# Altium footprint library Linear Technology Power Management LDO Linear Regulators.PcbLib: 77 footprints (part 1 of 5)
Each footprint in its own frame and in the unit in brackets; x right, y up, seen from the top. Pads: shape width x height; smd on the part's side, far side on the other; paste and mask are expansions set on the pad; w line width, h text height; cw(c..) or ccw(c..) is an arc to the next point about the centre after c.
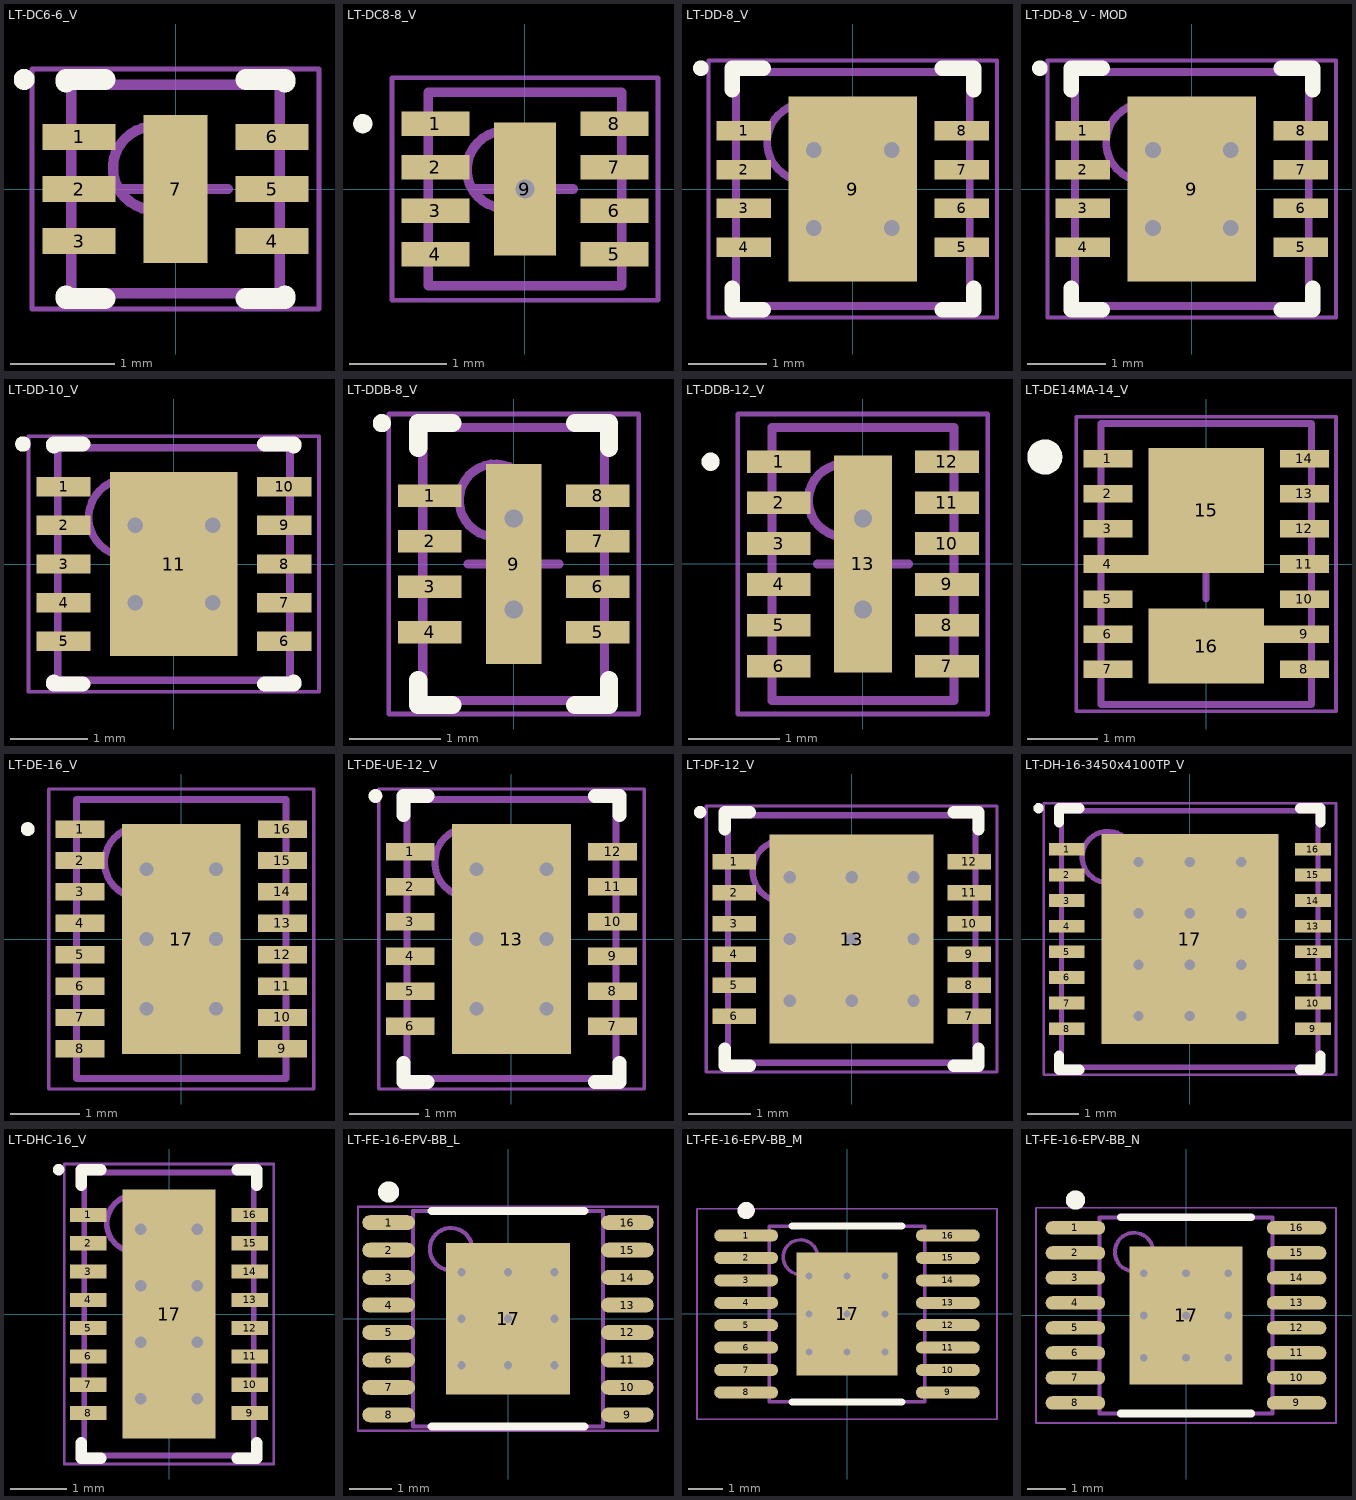
[diagram p0: the footprints below, top view; thin cyan lines are the x and y axes]

## LT-DC6-6_V [mm] "SON, 6-Leads, Body 2x2mm, Pitch 0.5mm, Thermal Pad 1.42x0.61mm"
height 0.8
pads (7):
  rect 0.7x0.25 smd mask+0.102: 1(-0.925,0.5) 2(-0.925,0) 4(0.925,-0.5) 5(0.925,0)
  rect 0.7x0.25 smd paste+0 mask+0.102: 3(-0.925,-0.5)
  rect 0.7x0.25 smd: 6(0.925,0.5)
  rect 0.61x1.42 smd: 7(0,0)
Top Overlay:
  circle w0.1: c-1.45,1.05 r0.05
  lines w0.2: -1.05,-1.025 -1.05,-1.05 -0.675,-1.05 ; -1.05,1.025 -1.05,1.05 -0.675,1.05 ; 0.675,-1.05 1.05,-1.05 1.05,-1.025 ; 0.675,1.05 1.05,1.05 1.05,1.025
Mechanical 13:
  circle w0.1: c-0.2,0.2 r0.4
  lines w0.1: -1,-1 -1,1 1,1 1,-1 -1,-1
Mechanical 15:
  lines w0.05: -1.375,-1.15 -1.375,1.15 1.375,1.15 1.375,-1.15 -1.375,-1.15
  lines w0.1: -0.5,0 0.5,0 ; 0,-0.5 0,0.5
3D body: height 0.8, standoff 0, extent -1,-1 1,1

## LT-DC8-8_V [mm] "SON, 8-Leads, Body 2x2mm, Pitch 0.45mm, Thermal Pad 1.37x0.64mm"
height 0.8
pads (9):
  rect 0.7x0.25 smd paste+0 mask+0.102: 1(-0.925,0.675)
  rect 0.7x0.25 smd mask+0.102: 2(-0.925,0.225) 3(-0.925,-0.225) 4(-0.925,-0.675) 5(0.925,-0.675) 6(0.925,-0.225) 7(0.925,0.225) 8(0.925,0.675)
  rect 0.64x1.37 smd mask+0.102: 9(0,0)
via 0,0 diameter 0.5 hole 0.2
Top Overlay:
  circle w0.1: c-1.675,0.675 r0.05
Mechanical 13:
  circle w0.1: c-0.2,0.2 r0.4
  lines w0.1: -1,-1 1,-1 1,1 -1,1 -1,-1
Mechanical 15:
  lines w0.05: -1.375,-1.15 1.375,-1.15 1.375,1.15 -1.375,1.15 -1.375,-1.15
  lines w0.1: -0.5,0 0.5,0 ; 0,-0.5 0,0.5
3D body: height 0.8, standoff 0, extent -1,-1 1,1

## LT-DD-8_V [mm] "SON, 8-Leads, Body 3x3mm, Pitch 0.5mm, Thermal Pad 1.65x2.38 mm, IPC Low Density"
height 0.8
pads (9):
  rect 0.7x0.25 smd mask+0.102: 1(-1.4,0.75) 2(-1.4,0.25) 3(-1.4,-0.25) 4(-1.4,-0.75) 5(1.4,-0.75) 6(1.4,-0.25) 7(1.4,0.25) 8(1.4,0.75)
  rect 1.65x2.38 smd mask+0.102: 9(0,0)
via 0.5,-0.5 diameter 0.5 hole 0.2
via -0.5,-0.5 diameter 0.5 hole 0.2
via 0.5,0.5 diameter 0.5 hole 0.2
via -0.5,0.5 diameter 0.5 hole 0.2
Top Overlay:
  circle w0.1: c-1.95,1.55 r0.05
  lines w0.2: -1.55,-1.275 -1.55,-1.55 -1.15,-1.55 ; -1.55,1.275 -1.55,1.55 -1.15,1.55 ; 1.15,-1.55 1.55,-1.55 1.55,-1.275 ; 1.15,1.55 1.55,1.55 1.55,1.275
Mechanical 13:
  circle w0.1: c-0.6,0.6 r0.5
  lines w0.1: -1.5,-1.5 1.5,-1.5 1.5,1.5 -1.5,1.5 -1.5,-1.5
Mechanical 15:
  lines w0.05: -1.85,-1.65 1.85,-1.65 1.85,1.65 -1.85,1.65 -1.85,-1.65
  lines w0.1: -0.5,0 0.5,0 ; 0,-0.5 0,0.5
3D body: height 0.8, standoff 0, extent -1.5,-1.5 1.5,1.5

## LT-DD-8_V - MOD [mm] "SON, 8-Leads, Body 3x3mm, Pitch 0.5mm, Thermal Pad 1.65x2.38 mm, IPC Low Density"
height 0.8
pads (9):
  rect 0.7x0.25 smd mask+0.102: 1(-1.4,0.75) 2(-1.4,0.25) 3(-1.4,-0.25) 4(-1.4,-0.75) 5(1.4,-0.75) 6(1.4,-0.25) 7(1.4,0.25) 8(1.4,0.75)
  rect 1.65x2.38 smd mask+0.102: 9(0,0)
via 0.5,-0.5 diameter 0.5 hole 0.203
via -0.5,-0.5 diameter 0.5 hole 0.203
via 0.5,0.5 diameter 0.5 hole 0.203
via -0.5,0.5 diameter 0.5 hole 0.203
Top Overlay:
  circle w0.1: c-1.95,1.55 r0.05
  lines w0.2: -1.55,-1.275 -1.55,-1.55 -1.15,-1.55 ; -1.55,1.275 -1.55,1.55 -1.15,1.55 ; 1.15,-1.55 1.55,-1.55 1.55,-1.275 ; 1.15,1.55 1.55,1.55 1.55,1.275
Mechanical 13:
  circle w0.1: c-0.6,0.6 r0.5
  lines w0.1: -1.5,-1.5 1.5,-1.5 1.5,1.5 -1.5,1.5 -1.5,-1.5
Mechanical 15:
  lines w0.05: -1.85,-1.65 1.85,-1.65 1.85,1.65 -1.85,1.65 -1.85,-1.65
  lines w0.1: -0.5,0 0.5,0 ; 0,-0.5 0,0.5
3D body: height 0.8, standoff 0, extent -1.476,-1.524 1.524,1.476

## LT-DD-10_V [mm] "SON, 10-Leads, Body 3x3mm, Pitch 0.5mm, Thermal Pad 2.38x1.65mm"
height 0.8
pads (11):
  rect 0.7x0.25 smd mask+0.102: 1(-1.425,1) 2(-1.425,0.5) 3(-1.425,0) 4(-1.425,-0.5) 5(-1.425,-1) 6(1.425,-1) 7(1.425,-0.5) 8(1.425,0) 9(1.425,0.5) 10(1.425,1)
  rect 1.65x2.38 smd mask+0.102: 11(0,0)
via -0.5,0.5 diameter 0.5 hole 0.2
via 0.5,0.5 diameter 0.5 hole 0.2
via -0.5,-0.5 diameter 0.5 hole 0.2
via 0.5,-0.5 diameter 0.5 hole 0.2
Top Overlay:
  circle w0.1: c-1.95,1.55 r0.05
  lines w0.2: -1.55,-1.525 -1.55,-1.55 -1.175,-1.55 ; -1.55,1.525 -1.55,1.55 -1.175,1.55 ; 1.175,-1.55 1.55,-1.55 1.55,-1.525 ; 1.175,1.55 1.55,1.55 1.55,1.525
Mechanical 13:
  circle w0.1: c-0.6,0.6 r0.5
  lines w0.1: -1.5,-1.5 -1.5,1.5 1.5,1.5 1.5,-1.5 -1.5,-1.5
Mechanical 15:
  lines w0.05: -1.875,-1.65 -1.875,1.65 1.875,1.65 1.875,-1.65 -1.875,-1.65
  lines w0.1: -0.5,0 0.5,0 ; 0,-0.5 0,0.5
3D body: height 0.8, standoff 0, extent -1.5,-1.5 1.5,1.5

## LT-DDB-8_V [mm] "SON, 8-Leads, Body 3x2mm, Pitch 0.5mm, Thermal Pad 2.2x0.61mm"
height 0.8
pads (9):
  rect 0.7x0.25 smd mask+0.102: 1(-0.925,0.75) 2(-0.925,0.25) 3(-0.925,-0.25) 4(-0.925,-0.75) 5(0.925,-0.75) 6(0.925,-0.25) 7(0.925,0.25) 8(0.925,0.75)
  rect 0.61x2.2 smd mask+0.102: 9(0,0)
via 0,-0.5 diameter 0.5 hole 0.2
via 0,0.5 diameter 0.5 hole 0.2
Top Overlay:
  circle w0.1: c-1.45,1.55 r0.05
  lines w0.2: -1.05,-1.275 -1.05,-1.55 -0.675,-1.55 ; -1.05,1.275 -1.05,1.55 -0.675,1.55 ; 0.675,-1.55 1.05,-1.55 1.05,-1.275 ; 0.675,1.55 1.05,1.55 1.05,1.275
Mechanical 13:
  circle w0.1: c-0.2,0.7 r0.4
  lines w0.1: -1,-1.5 1,-1.5 1,1.5 -1,1.5 -1,-1.5
Mechanical 15:
  lines w0.05: -1.375,-1.65 1.375,-1.65 1.375,1.65 -1.375,1.65 -1.375,-1.65
  lines w0.1: -0.5,0 0.5,0 ; 0,-0.5 0,0.5
3D body: height 0.8, standoff 0, extent -1,-1.5 1,1.5

## LT-DDB-12_V [mm] "SON, 12-Leads, Body 3x2mm, Pitch 0.45mm, Thermal Pad 2.39x0.64mm"
height 0.8
pads (13):
  rect 0.7x0.25 smd mask+0.102: 1(-0.925,1.125) 2(-0.925,0.675) 3(-0.925,0.225) 4(-0.925,-0.225) 5(-0.925,-0.675) 6(-0.925,-1.125) 7(0.925,-1.125) 8(0.925,-0.675) 9(0.925,-0.225) 10(0.925,0.225) 11(0.925,0.675) 12(0.925,1.125)
  rect 0.64x2.39 smd mask+0.102: 13(0,0)
via 0,0.5 diameter 0.5 hole 0.2
via 0,-0.5 diameter 0.5 hole 0.2
Top Overlay:
  circle w0.1: c-1.675,1.125 r0.05
Mechanical 13:
  circle w0.1: c-0.2,0.7 r0.4
  lines w0.1: -1,-1.5 -1,1.5 1,1.5 1,-1.5 -1,-1.5
Mechanical 15:
  lines w0.05: -1.375,-1.65 -1.375,1.65 1.375,1.65 1.375,-1.65 -1.375,-1.65
  lines w0.1: -0.5,0 0.5,0 ; 0,-0.5 0,0.5
3D body: height 0.8, standoff 0, extent -1,-1.5 1,1.5

## LT-DE14MA-14_V [mm] "DE14MA, 14-Leads, Body 4x3mm, Pitch 0.5mm"
height 0.75
pads (18):
  rect 0.7x0.25 smd: 1(-1.4,1.5) 2(-1.4,1) 3(-1.4,0.5) 4(-1.4,0) 5(-1.4,-0.5) 6(-1.4,-1) 7(-1.4,-1.5) 8(1.4,-1.5) 9(1.4,-1) 10(1.4,-0.5) 11(1.4,0) 12(1.4,0.5) 13(1.4,1) 14(1.4,1.5)
  rect 1.65x1.78 smd: 15(0,0.765)
  rect 1.65x1.07 smd: 16(0,-1.17)
  rect 0.3x0.25 smd: ""(-0.97,0)
  rect 0.5x0.25 smd: ""(0.9,-1)
Top Overlay:
  circle w0.25: c-2.3,1.525 r0.125
Mechanical 13:
  lines w0.1: -1.5,-2 -1.5,2 1.5,2 1.5,-2 -1.5,-2
Mechanical 15:
  lines w0.05: -1.85,-2.1 1.85,-2.1 1.85,2.1 -1.85,2.1 -1.85,-2.1
  lines w0.1: -0.5,0 0.5,0 ; 0,-0.5 0,0.5
3D body: height 0.75, standoff 0, extent -1.5,-2 1.5,2

## LT-DE-16_V [mm] "SON, 16-Leads, Body 4x3mm, Pitch 0.45mm, Thermal Pad 3.3x1.7mm"
height 0.8
pads (17):
  rect 0.7x0.25 smd mask+0.102: 1(-1.45,1.575) 2(-1.45,1.125) 3(-1.45,0.675) 4(-1.45,0.225) 5(-1.45,-0.225) 6(-1.45,-0.675) 7(-1.45,-1.125) 8(-1.45,-1.575) 9(1.45,-1.575) 10(1.45,-1.125) 11(1.45,-0.675) 12(1.45,-0.225) 13(1.45,0.225) 14(1.45,0.675) 15(1.45,1.125) 16(1.45,1.575)
  rect 1.7x3.3 smd mask+0.102: 17(0,0)
via -0.5,1 diameter 0.5 hole 0.2
via 0.5,1 diameter 0.5 hole 0.2
via -0.5,0 diameter 0.5 hole 0.2
via 0.5,0 diameter 0.5 hole 0.2
via -0.5,-1 diameter 0.5 hole 0.2
via 0.5,-1 diameter 0.5 hole 0.2
Top Overlay:
  circle w0.1: c-2.2,1.575 r0.05
Mechanical 13:
  circle w0.1: c-0.6,1.1 r0.5
  lines w0.1: -1.5,-2 -1.5,2 1.5,2 1.5,-2 -1.5,-2
Mechanical 15:
  lines w0.05: -1.9,-2.15 -1.9,2.15 1.9,2.15 1.9,-2.15 -1.9,-2.15
  lines w0.1: -0.5,0 0.5,0 ; 0,-0.5 0,0.5
3D body: height 0.8, standoff 0, extent -1.5,-2 1.5,2

## LT-DE-UE-12_V [mm] "SON, 12-Leads, Body 4x3mm, Pitch 0.5mm, Thermal Pad 3.3x1.7mm"
height 0.8
pads (13):
  rect 0.7x0.25 smd: 1(-1.45,1.25) 2(-1.45,0.75) 3(-1.45,0.25) 4(-1.45,-0.25) 5(-1.45,-0.75) 6(-1.45,-1.25) 7(1.45,-1.25) 8(1.45,-0.75) 9(1.45,-0.25) 10(1.45,0.25) 11(1.45,0.75) 12(1.45,1.25)
  rect 1.7x3.3 smd: 13(0,0)
via 0.5,-1 diameter 0.5 hole 0.2
via -0.5,-1 diameter 0.5 hole 0.2
via 0.5,0 diameter 0.5 hole 0.2
via -0.5,0 diameter 0.5 hole 0.2
via 0.5,1 diameter 0.5 hole 0.2
via -0.5,1 diameter 0.5 hole 0.2
Top Overlay:
  circle w0.1: c-1.95,2.05 r0.05
  lines w0.2: -1.55,-1.775 -1.55,-2.05 -1.2,-2.05 ; -1.55,1.775 -1.55,2.05 -1.2,2.05 ; 1.2,-2.05 1.55,-2.05 1.55,-1.775 ; 1.2,2.05 1.55,2.05 1.55,1.775
Mechanical 13:
  circle w0.1: c-0.6,1.1 r0.5
  lines w0.1: -1.5,-2 1.5,-2 1.5,2 -1.5,2 -1.5,-2
Mechanical 15:
  lines w0.05: -1.9,-2.15 1.9,-2.15 1.9,2.15 -1.9,2.15 -1.9,-2.15
  lines w0.1: -0.5,0 0.5,0 ; 0,-0.5 0,0.5
3D body: height 0.8, standoff 0, extent -1.5,-2 1.5,2

## LT-DF-12_V [mm] "SON, 12-Leads, Body 4x4mm, Pitch 0.5mm, Thermal Pad 2.65x3.38mm"
height 0.8
pads (13):
  rect 0.7x0.25 smd: 1(-1.9,1.25) 2(-1.9,0.75) 3(-1.9,0.25) 4(-1.9,-0.25) 5(-1.9,-0.75) 6(-1.9,-1.25) 7(1.9,-1.25) 8(1.9,-0.75) 9(1.9,-0.25) 10(1.9,0.25) 11(1.9,0.75) 12(1.9,1.25)
  rect 2.65x3.38 smd: 13(0,0)
via 1,-1 diameter 0.5 hole 0.2
via 0,-1 diameter 0.5 hole 0.2
via -1,-1 diameter 0.5 hole 0.2
via 1,0 diameter 0.5 hole 0.2
via 0,0 diameter 0.5 hole 0.2
via -1,0 diameter 0.5 hole 0.2
via 1,1 diameter 0.5 hole 0.2
via 0,1 diameter 0.5 hole 0.2
via -1,1 diameter 0.5 hole 0.2
Top Overlay:
  circle w0.1: c-2.45,2.05 r0.05
  lines w0.2: -2.05,-1.775 -2.05,-2.05 -1.65,-2.05 ; -2.05,1.775 -2.05,2.05 -1.65,2.05 ; 1.65,-2.05 2.05,-2.05 2.05,-1.775 ; 1.65,2.05 2.05,2.05 2.05,1.775
Mechanical 13:
  circle w0.1: c-1.1,1.1 r0.5
  lines w0.1: -2,-2 2,-2 2,2 -2,2 -2,-2
Mechanical 15:
  lines w0.05: -2.35,-2.15 2.35,-2.15 2.35,2.15 -2.35,2.15 -2.35,-2.15
  lines w0.1: -0.5,0 0.5,0 ; 0,-0.5 0,0.5
3D body: height 0.8, standoff 0, extent -2,-2 2,2

## LT-DH-16-3450x4100TP_V [mm] "SON, 16-Leads, Body 5x5mm, Pitch 0.5mm, Thermal Pad 3.45x4.1mm"
height 0.8
pads (17):
  rect 0.7x0.25 smd: 1(-2.4,1.75) 2(-2.4,1.25) 3(-2.4,0.75) 4(-2.4,0.25) 5(-2.4,-0.25) 6(-2.4,-0.75) 7(-2.4,-1.25) 8(-2.4,-1.75) 9(2.4,-1.75) 10(2.4,-1.25) 11(2.4,-0.75) 12(2.4,-0.25) 13(2.4,0.25) 14(2.4,0.75) 15(2.4,1.25) 16(2.4,1.75)
  rect 3.45x4.1 smd: 17(0,0)
via 1,-1.5 diameter 0.5 hole 0.2
via 0,-1.5 diameter 0.5 hole 0.2
via -1,-1.5 diameter 0.5 hole 0.2
via 1,-0.5 diameter 0.5 hole 0.2
via 0,-0.5 diameter 0.5 hole 0.2
via -1,-0.5 diameter 0.5 hole 0.2
via 1,0.5 diameter 0.5 hole 0.2
via 0,0.5 diameter 0.5 hole 0.2
via -1,0.5 diameter 0.5 hole 0.2
via 1,1.5 diameter 0.5 hole 0.2
via 0,1.5 diameter 0.5 hole 0.2
via -1,1.5 diameter 0.5 hole 0.2
Top Overlay:
  circle w0.1: c-2.95,2.55 r0.05
  lines w0.2: -2.55,-2.275 -2.55,-2.55 -2.15,-2.55 ; -2.55,2.275 -2.55,2.55 -2.15,2.55 ; 2.15,-2.55 2.55,-2.55 2.55,-2.275 ; 2.15,2.55 2.55,2.55 2.55,2.275
Mechanical 13:
  circle w0.1: c-1.6,1.6 r0.5
  lines w0.1: -2.5,-2.5 2.5,-2.5 2.5,2.5 -2.5,2.5 -2.5,-2.5
Mechanical 15:
  lines w0.05: -2.85,-2.65 2.85,-2.65 2.85,2.65 -2.85,2.65 -2.85,-2.65
  lines w0.1: -0.5,0 0.5,0 ; 0,-0.5 0,0.5
3D body: height 0.8, standoff 0, extent -2.5,-2.5 2.5,2.5

## LT-DHC-16_V [mm] "SON, 16-Leads, Body 5x3mm, Pitch 0.5mm, Thermal Pad 4.4X1.65mm"
height 0.8
pads (17):
  rect 0.65x0.25 smd: 1(-1.425,1.75) 2(-1.425,1.25) 3(-1.425,0.75) 4(-1.425,0.25) 5(-1.425,-0.25) 6(-1.425,-0.75) 7(-1.425,-1.25) 8(-1.425,-1.75) 9(1.425,-1.75) 10(1.425,-1.25) 11(1.425,-0.75) 12(1.425,-0.25) 13(1.425,0.25) 14(1.425,0.75) 15(1.425,1.25) 16(1.425,1.75)
  rect 1.65x4.4 smd: 17(0,0)
via 0.5,-1.5 diameter 0.5 hole 0.2
via -0.5,-1.5 diameter 0.5 hole 0.2
via 0.5,-0.5 diameter 0.5 hole 0.2
via -0.5,-0.5 diameter 0.5 hole 0.2
via 0.5,0.5 diameter 0.5 hole 0.2
via -0.5,0.5 diameter 0.5 hole 0.2
via 0.5,1.5 diameter 0.5 hole 0.2
via -0.5,1.5 diameter 0.5 hole 0.2
Top Overlay:
  circle w0.1: c-1.95,2.55 r0.05
  lines w0.2: -1.55,-2.275 -1.55,-2.55 -1.2,-2.55 ; -1.55,2.275 -1.55,2.55 -1.2,2.55 ; 1.2,-2.55 1.55,-2.55 1.55,-2.275 ; 1.2,2.55 1.55,2.55 1.55,2.275
Mechanical 13:
  circle w0.1: c-0.6,1.6 r0.5
  lines w0.1: -1.5,-2.5 1.5,-2.5 1.5,2.5 -1.5,2.5 -1.5,-2.5
Mechanical 15:
  lines w0.05: -1.85,-2.65 1.85,-2.65 1.85,2.65 -1.85,2.65 -1.85,-2.65
  lines w0.1: -0.5,0 0.5,0 ; 0,-0.5 0,0.5
3D body: height 0.8, standoff 0, extent -1.5,-2.5 1.5,2.5

## LT-FE-16-EPV-BB_L [mm] "SOP, 16-Leads, Body 5.1x4.5mm, Pitch 0.65mm, Thermal Pad 3.58x2.94mm, IPC High Density"
height 1.1
pads (17):
  oval 1.25x0.35 smd: 1(-2.825,2.275) 2(-2.825,1.625) 3(-2.825,0.975) 4(-2.825,0.325) 5(-2.825,-0.325) 6(-2.825,-0.975) 7(-2.825,-1.625) 8(-2.825,-2.275) 9(2.825,-2.275) 10(2.825,-1.625) 11(2.825,-0.975) 12(2.825,-0.325) 13(2.825,0.325) 14(2.825,0.975) 15(2.825,1.625) 16(2.825,2.275)
  rect 2.94x3.58 smd: 17(0,0)
via -1.1,1.1 diameter 0.5 hole 0.2
via 0,1.1 diameter 0.5 hole 0.2
via 1.1,1.1 diameter 0.5 hole 0.2
via -1.1,0 diameter 0.5 hole 0.2
via 0,0 diameter 0.5 hole 0.2
via 1.1,0 diameter 0.5 hole 0.2
via -1.1,-1.1 diameter 0.5 hole 0.2
via 0,-1.1 diameter 0.5 hole 0.2
via 1.1,-1.1 diameter 0.5 hole 0.2
Top Overlay:
  circle w0.25: c-2.825,3 r0.125
  lines w0.2: -1.8,-2.55 1.8,-2.55 ; -1.8,2.55 1.8,2.55
Mechanical 13:
  circle w0.1: c-1.35,1.65 r0.5
  lines w0.1: -2.25,-2.55 -2.25,2.55 2.25,2.55 2.25,-2.55 -2.25,-2.55
Mechanical 15:
  lines w0.05: -3.55,-2.65 -3.55,2.65 3.55,2.65 3.55,-2.65 -3.55,-2.65
  lines w0.1: -0.5,0 0.5,0 ; 0,-0.5 0,0.5
3D body: height 1.1, standoff 0.05, extent -2.25,-2.55 2.25,2.55

## LT-FE-16-EPV-BB_M [mm] "SOP, 16-Leads, Body 5.1x4.5mm, Pitch 0.65mm, Thermal Pad 3.58x2.94mm, IPC Low Density"
height 1.1
pads (17):
  oval 1.85x0.35 smd: 1(-2.925,2.275) 2(-2.925,1.625) 3(-2.925,0.975) 4(-2.925,0.325) 5(-2.925,-0.325) 6(-2.925,-0.975) 7(-2.925,-1.625) 8(-2.925,-2.275) 9(2.925,-2.275) 10(2.925,-1.625) 11(2.925,-0.975) 12(2.925,-0.325) 13(2.925,0.325) 14(2.925,0.975) 15(2.925,1.625) 16(2.925,2.275)
  rect 2.94x3.58 smd: 17(0,0)
via -1.1,1.1 diameter 0.5 hole 0.2
via 0,1.1 diameter 0.5 hole 0.2
via 1.1,1.1 diameter 0.5 hole 0.2
via -1.1,0 diameter 0.5 hole 0.2
via 0,0 diameter 0.5 hole 0.2
via 1.1,0 diameter 0.5 hole 0.2
via -1.1,-1.1 diameter 0.5 hole 0.2
via 0,-1.1 diameter 0.5 hole 0.2
via 1.1,-1.1 diameter 0.5 hole 0.2
Top Overlay:
  circle w0.25: c-2.925,3 r0.125
  lines w0.2: -1.6,-2.55 1.6,-2.55 ; -1.6,2.55 1.6,2.55
Mechanical 13:
  circle w0.1: c-1.35,1.65 r0.5
  lines w0.1: -2.25,-2.55 -2.25,2.55 2.25,2.55 2.25,-2.55 -2.25,-2.55
Mechanical 15:
  lines w0.05: -4.35,-3.05 -4.35,3.05 4.35,3.05 4.35,-3.05 -4.35,-3.05
  lines w0.1: -0.5,0 0.5,0 ; 0,-0.5 0,0.5
3D body: height 1.1, standoff 0.05, extent -2.25,-2.55 2.25,2.55

## LT-FE-16-EPV-BB_N [mm] "SOP, 16-Leads, Body 5.1x4.5mm, Pitch 0.65mm, Thermal Pad 3.58x2.94mm, IPC Medium Density"
height 1.1
pads (17):
  oval 1.55x0.35 smd: 1(-2.875,2.275) 2(-2.875,1.625) 3(-2.875,0.975) 4(-2.875,0.325) 5(-2.875,-0.325) 6(-2.875,-0.975) 7(-2.875,-1.625) 8(-2.875,-2.275) 9(2.875,-2.275) 10(2.875,-1.625) 11(2.875,-0.975) 12(2.875,-0.325) 13(2.875,0.325) 14(2.875,0.975) 15(2.875,1.625) 16(2.875,2.275)
  rect 2.94x3.58 smd: 17(0,0)
via -1.1,1.1 diameter 0.5 hole 0.2
via 0,1.1 diameter 0.5 hole 0.2
via 1.1,1.1 diameter 0.5 hole 0.2
via -1.1,0 diameter 0.5 hole 0.2
via 0,0 diameter 0.5 hole 0.2
via 1.1,0 diameter 0.5 hole 0.2
via -1.1,-1.1 diameter 0.5 hole 0.2
via 0,-1.1 diameter 0.5 hole 0.2
via 1.1,-1.1 diameter 0.5 hole 0.2
Top Overlay:
  circle w0.25: c-2.875,3 r0.125
  lines w0.2: -1.7,-2.55 1.7,-2.55 ; -1.7,2.55 1.7,2.55
Mechanical 13:
  circle w0.1: c-1.35,1.65 r0.5
  lines w0.1: -2.25,-2.55 -2.25,2.55 2.25,2.55 2.25,-2.55 -2.25,-2.55
Mechanical 15:
  lines w0.05: -3.9,-2.8 -3.9,2.8 3.9,2.8 3.9,-2.8 -3.9,-2.8
  lines w0.1: -0.5,0 0.5,0 ; 0,-0.5 0,0.5
3D body: height 1.1, standoff 0.05, extent -2.25,-2.55 2.25,2.55